# Altium schematic symbol library WISP6.SchLib: 80 symbols
Pins are listed as number, name and electrical type; pins without a type are passive.

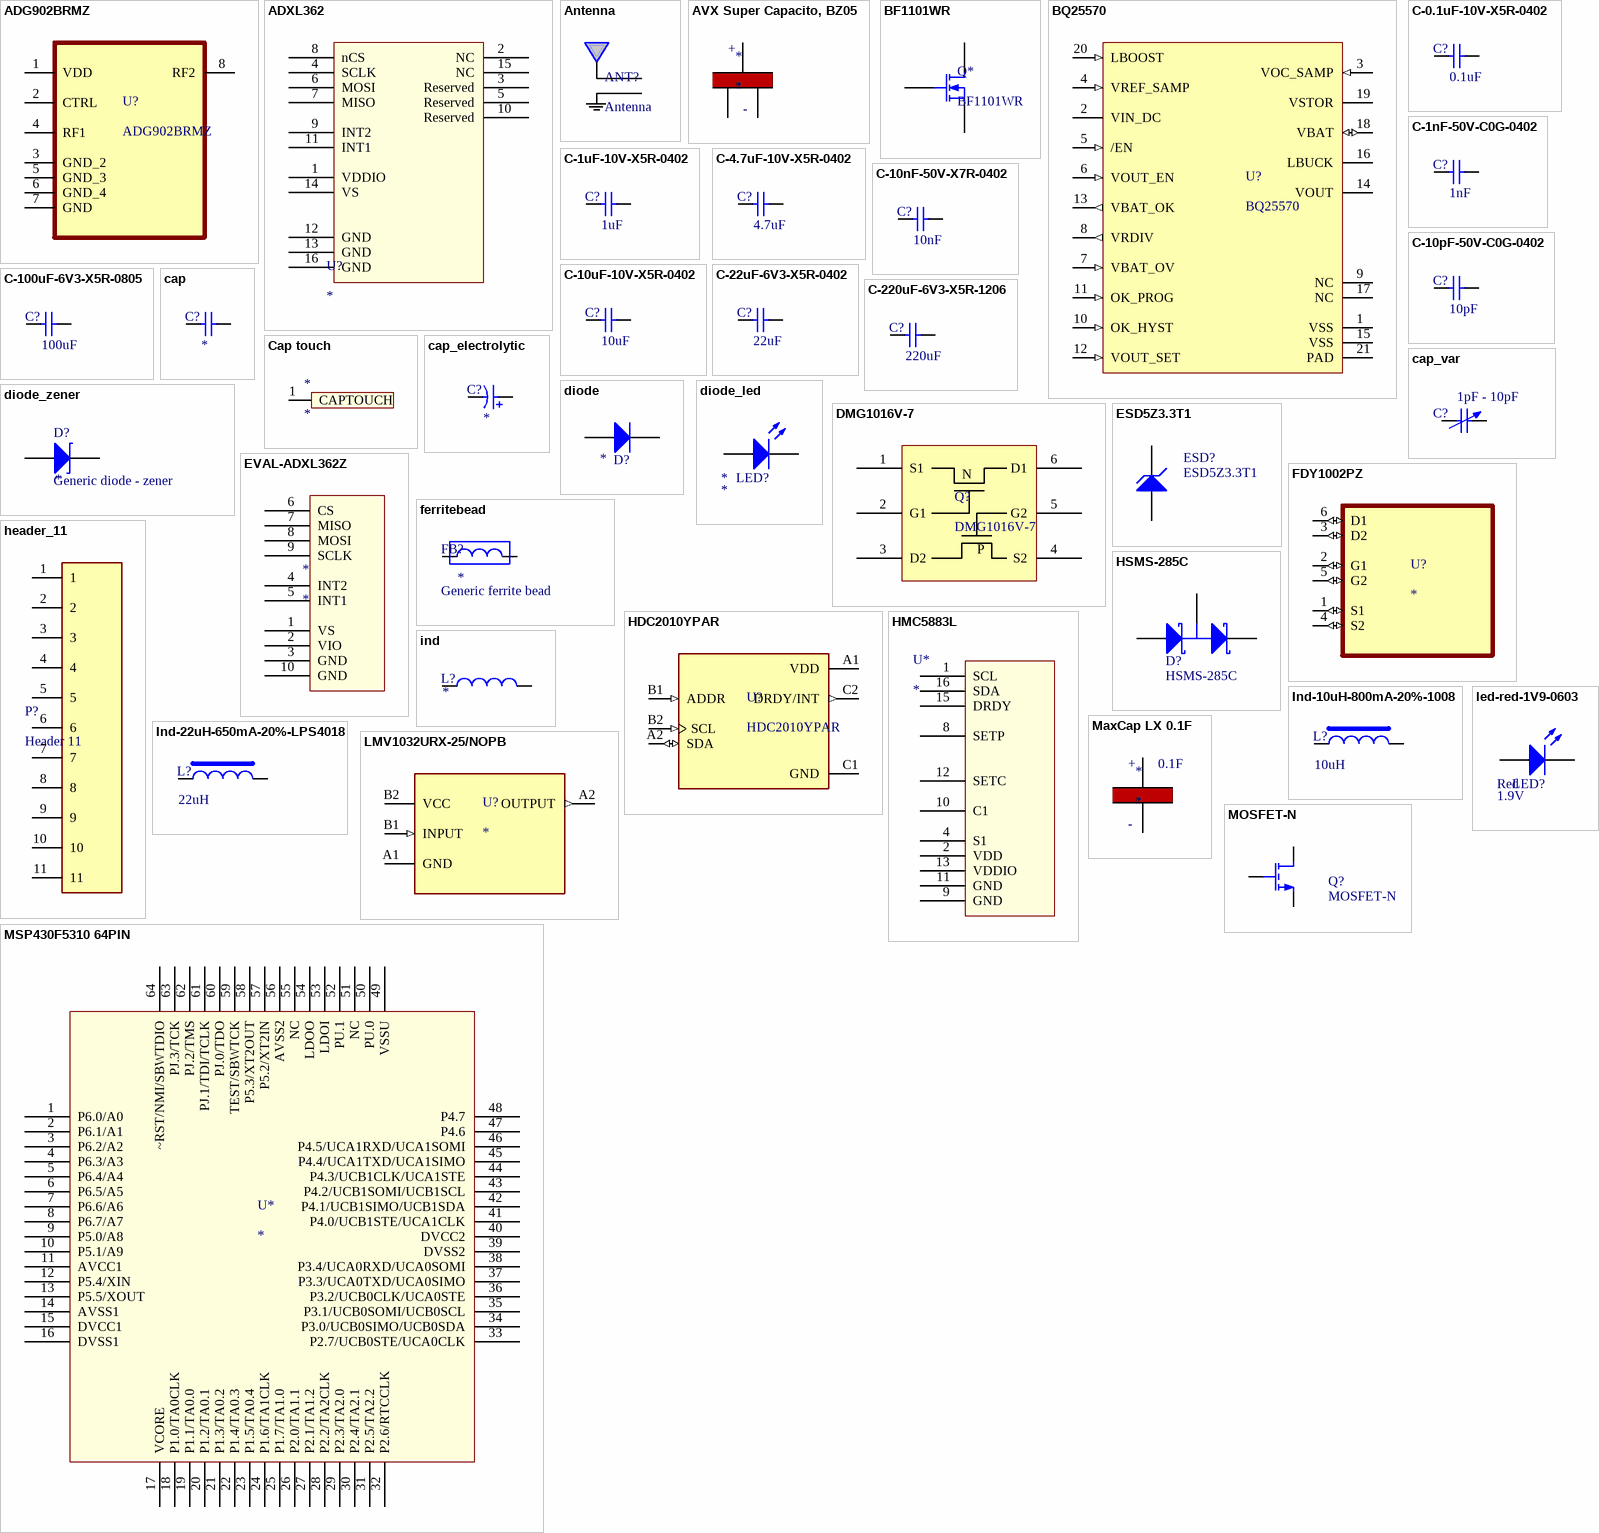
[diagram p0: symbols ADG902BRMZ to MSP430F5310 64PIN]

## ADG902BRMZ
designator U?
RF Switch IC General Purpose SPST 2.5GHz 50Ohm 8-MSOP; Manufacturer: Analog Devices; Rating: 1.65V~2.75Vcc, -40~85C; Digi-Key Part Number: ADG902BRMZ-ND; Manufacturer Part Number: ADG902BRMZ; Value: *; Note: *
footprint SOP65P490X110-8N
pins: 1 VDD (power), 2 CTRL, 3 GND_2, 4 RF1, 5 GND_3, 6 GND_4, 7 GND, 8 RF2

## ADXL362
designator U?
Analog Devices low power accelerometer; Manufacturer: Analog Devices Inc.; Manufacturer Part Number: ADXL362BCCZ-RL; Rating: 1.6~3.5V, -40~85C; Digi-Key Part Number: 505-ADXL362BCCZ-RLCT-ND; Note: *
footprint ADXL362
pins: 1 VDDIO, 2 NC, 3 Reserved, 4 SCLK, 5 Reserved, 6 MOSI, 7 MISO, 8 nCS, 9 INT2, 10 Reserved, 11 INT1, 12 GND, 13 GND, 14 VS, 15 NC, 16 GND

## Antenna
designator ANT?
footprint PIFA_915 (915 MHz PIFA)
pins: 1 Feed, 2 Gnd

## AVX Super Capacito, BZ05
designator *
AVX Super Capacito, BZ05
footprint SuperCap_BZ05 (SOT-323/SC-70; 3 Leads; HSMS-285C)
pins: 1 Positive (power), 2 NEGATIVE (power), 3 NEGATIVE (power)
text: +; -

## BF1101WR
designator Q*
N-Channel Dual-Gate Mos-Fets MOSFET, SOT343R; Manufacturer Part Number: BF1101WR,115; Manufacturer: NXP Semiconductors; Digi-Key Part Number: 568-6140-1-ND; Rating: *; Value: *; Note: *
footprint SOT343R (SOT343R - Package for BF1101WR)
pins: 1 S, 2 D, 3 G

## BQ25570
designator U?
Buck-boost charger Energy Harvesting PMIC 20-VQFN (3.5x3.5); Manufacturer: Texas Instruments; Manufacturer Part Number: BQ25570RGRT; Rating: -40~125C; Digi-Key Part Number: 296-37014-1-ND; Value: *; Note: *
footprint BQ25570 (Boost Charger)
pins: 1 VSS, 2 VIN_DC, 3 VOC_SAMP (in), 4 VREF_SAMP (in), 5 /EN (in), 6 VOUT_EN (in), 7 VBAT_OV (in), 8 VRDIV (out), 9 NC, 10 OK_HYST (in), 11 OK_PROG (in), 12 VOUT_SET (in), 13 VBAT_OK (out), 14 VOUT, 15 VSS, 16 LBUCK, 17 NC, 18 VBAT (io), 19 VSTOR, 20 LBOOST (in), 21 PAD

## C-0.1uF-10V-X5R-0402
designator C?, comment value 0.1uF  (hidden comment: Generic ceramic capacitor)
CAP CER 100nF/0.1UF 10V X5R 0402; Manufacturer: Samsung Electro-Mechanics; Manufacturer Part Number: CL05A104KP5NNNC; Rating: 10V, -55C~85C; Tolerance: +-10%; Digi-Key Part Number: 1276-1022-1-ND; Note: *
footprint 0402 (Surface Mount; Body 1 x 0.5 mm (LxW typ))
footprint 0402-W (Surface Mount - Wide; Body 1.0 x 0.5 mm (LxW typ))
pins: 1, 2

## C-1nF-50V-C0G-0402
designator C?, comment value 1nF  (hidden comment: Generic ceramic capacitor)
CAP CER 1000PF 50V C0G/NP0 0402; Manufacturer: Samsung Electro-Mechanics; Manufacturer Part Number: CL05C102JB5NNNC; Rating: 50V, -55~125C; Tolerance: +-5%; Digi-Key Part Number: 1276-1635-1-ND; Note: *
footprint 0402 (Surface Mount; Body 1 x 0.5 mm (LxW typ))
footprint 0402-W (Surface Mount - Wide; Body 1.0 x 0.5 mm (LxW typ))
pins: 1, 2

## C-1uF-10V-X5R-0402
designator C?, comment value 1uF  (hidden comment: Generic ceramic capacitor)
CAP CER 1UF 10V X5R 0402; Manufacturer: Samsung Electro-Mechanics; Manufacturer Part Number: CL05A105KP5NNNC; Rating: 10V, -55~85C; Tolerance: +-10%; Digi-Key Part Number: 1276-1076-1-ND; Note: *
footprint 0402 (Surface Mount; Body 1 x 0.5 mm (LxW typ))
footprint 0402-W (Surface Mount - Wide; Body 1.0 x 0.5 mm (LxW typ))
pins: 1, 2

## C-4.7uF-10V-X5R-0402
designator C?, comment value 4.7uF  (hidden comment: Generic ceramic capacitor)
CAP CER 4.7UF 10V X5R 0402; Manufacturer: Samsung Electro-Mechanics; Manufacturer Part Number: CL05A475MP5NRNC; Rating: 10V, -55~85C; Tolerance: +-20%; Digi-Key Part Number: 1276-1482-1-ND; Note: *
footprint 0402 (Surface Mount; Body 1 x 0.5 mm (LxW typ))
footprint 0402-W (Surface Mount - Wide; Body 1.0 x 0.5 mm (LxW typ))
pins: 1, 2

## C-10nF-50V-X7R-0402
designator C?, comment value 10nF  (hidden comment: Generic ceramic capacitor)
10000 pF ±10% 50V Ceramic Capacitor X7R 0402 (1005 Metric); Manufacturer: Samsung Electro-Mechanics; Manufacturer Part Number: CL05B103KB5NNNC; Rating: 50V, -55~125C; Tolerance: +-10%; Digi-Key Part Number: 1276-1028-1-ND; Note: *
footprint 0402 (Surface Mount; Body 1 x 0.5 mm (LxW typ))
footprint 0402-W (Surface Mount - Wide; Body 1.0 x 0.5 mm (LxW typ))
pins: 1, 2

## C-10pF-50V-C0G-0402
designator C?, comment value 10pF  (hidden comment: Generic ceramic capacitor)
CAP CER 10PF 50V C0G/NP0 0402; Manufacturer: Samsung Electro-Mechanics; Manufacturer Part Number: CL05C100DB5NNNC; Rating: 10V, -55~125C; Tolerance: +-0.5pF; Digi-Key Part Number: 1276-1625-1-ND; Note: *
footprint 0402 (Surface Mount; Body 1 x 0.5 mm (LxW typ))
footprint 0402-W (Surface Mount - Wide; Body 1.0 x 0.5 mm (LxW typ))
pins: 1, 2

## C-10uF-10V-X5R-0402
designator C?, comment value 10uF  (hidden comment: Generic ceramic capacitor)
CAP CER 10UF 10V X5R 0402; Manufacturer: Samsung Electro-Mechanics; Manufacturer Part Number: CL05A106MP6NUN8; Rating: 10V, -55~85C; Tolerance: +-20%; Digi-Key Part Number: 1276-CL05A106MP6NUN8CT-ND; Note: *
footprint 0402 (Surface Mount; Body 1 x 0.5 mm (LxW typ))
footprint 0402-W (Surface Mount - Wide; Body 1.0 x 0.5 mm (LxW typ))
pins: 1, 2

## C-22uF-6V3-X5R-0402
designator C?, comment value 22uF  (hidden comment: Generic ceramic capacitor)
CAP CER 22UF 6.3V X5R 0402; Manufacturer: Samsung Electro-Mechanics; Manufacturer Part Number: CL05A226MQ5N6J8; Rating: 6.3V, -55~85C; Tolerance: +-20%; Digi-Key Part Number: 1276-7090-1-ND; Note: *
footprint 0402 (Surface Mount; Body 1 x 0.5 mm (LxW typ))
footprint 0402-W (Surface Mount - Wide; Body 1.0 x 0.5 mm (LxW typ))
pins: 1, 2

## C-100uF-6V3-X5R-0805
designator C?, comment value 100uF  (hidden comment: Generic ceramic capacitor)
CAP CER 100UF 6.3V X5R 0805; Manufacturer: Murata Electronics; Manufacturer Part Number: GRM21BR60J107ME15L; Rating: 6.3V, -55~85C; Tolerance: +-20%; Digi-Key Part Number: 490-13981-1-ND; Note: *
footprint 0805 (Surface Mount; Body 2.0 x 1.25 mm (LxW typ))
footprint 0805-W (Surface Mount - Wide; Body 2.0 x 1.25 mm (LxW typ))
pins: 1, 2

## C-220uF-6V3-X5R-1206
designator C?, comment value 220uF  (hidden comment: Generic ceramic capacitor)
CAP CER 220UF 6.3V X5R 1206; Manufacturer: Murata Electronics; Manufacturer Part Number: GRM31CR60J227ME11L; Rating: 6.3V, -55~85C; Tolerance: +-20%; Digi-Key Part Number: 490-13970-1-ND; Note: *
footprint 1206 (Surface Mount; Body 3.2 x 1.6 mm (LxW typ))
footprint 1206-W (Surface Mount - Wide; Body 3.2 x 1.6 mm (LxW typ))
pins: 1, 2

## cap
designator C?, comment Generic capacitor  (value not drawn)
Ceramic Capacitor (Surface Mount); Digi-Key Part Number: *; Manufacturer: *; Manufacturer Part Number: *; Note: *; Rating: *; Tolerance: *; Value: *
footprint 0402 (Surface Mount; Body 1 x 0.5 mm (LxW typ))
footprint 0402-W (Surface Mount - Wide; Body 1.0 x 0.5 mm (LxW typ))
footprint 0603 (Surface Mount; Body 1.6 x 0.8 mm (LxW typ))
footprint 0603-W (Surface Mount - Wide; Body 1.6 x 0.8 mm (LxW typ))
footprint 0805 (Surface Mount; Body 2.0 x 1.25 mm (LxW typ))
footprint 0805-W (Surface Mount - Wide; Body 2.0 x 1.25 mm (LxW typ))
footprint 1206 (Surface Mount; Body 3.2 x 1.6 mm (LxW typ))
footprint 1206-W (Surface Mount - Wide; Body 3.2 x 1.6 mm (LxW typ))
footprint 1210 (Surface Mount; Body 3.2 x 2.5 mm (LxW typ))
footprint 1210-W (Chip Capacitor; Body 3.2 x 2.5 mm (LxW typ))
pins: 1, 2

## Cap touch
designator *
footprint CAPTOUCH-15mm
pins: 1 CAPTOUCH

## cap_electrolytic
designator C?, comment Generic electrolytic capacitor  (value not drawn)
Electrolytic capacitor; Digi-Key Part Number: *; Manufacturer: *; Manufacturer Part Number: *; Note: *; Rating: *; Tolerance: *; Value: *
footprint CAPPRD500W60D1000H3200
pins: N, P

## cap_var
designator C?, comment value 1pF - 10pF  (hidden comment: Varicap)
Variable or Adjustable Capacitor; Manufacturer: *; Manufacturer Part Number: *; Digi-Key Part Number: *; Rating: *; Tolerance: *; Note: *
footprint Var-Cap_0603_Small (Var-Cap 0603 Compatible High-Q, DK#490-2011-1-ND)
pins: 1, 2

## diode
designator D?, comment Generic diode  (value not drawn)
General purpose diode; Manufacturer: *; Manufacturer Part Number: *; Digi-Key Part Number: *; Rating: *; Note: *; Tolerance: *; Value: *
footprint Diode - SOD128 (Diode: Body 1.6 x 0.8 mm (LxW typ))
footprint DIODE - SOD123 (SOD-123; 2 Leads; Body 2.7 x 1.6 mm, (LxW))
footprint SOD-523 (SOD-523 Footprint)
pins: 1 A, 2 C

## diode_led
designator LED?, comment Generic LED  (value not drawn)
Typical RED, GREEN, YELLOW, AMBER GaAs LED; Digi-Key Part Number: *; Manufacturer: *; Manufacturer Part Number: *; Note: *; Rating: *; Tolerance: *; Value: *; Color: *
footprint Diode - 0603 (Diode: Body 1.6 x 0.8 mm (LxW typ))
pins: 1 A, 2 K

## diode_zener
designator D?, comment Generic diode - zener
Diode - Zener; Manufacturer Part Number: *; Manufacturer: *; Digi-Key Part Number: *; Note: *; Tolerance: *; Rating: *; Value: *
footprint SOD-523 (SOD-523 Footprint)
footprint Zener_SOD-523 (Zener Diod)
pins: 1 A, 2 K

## DMG1016V-7
designator Q?
MOSFET N/P-CH 20V 0.87A SOT563; Manufacturer: Diodes Incorporated; Rating: 530mW, -55~150C; Digi-Key Part Number: DMG1016V-7DICT-ND; Manufacturer Part Number: DMG1016V-7; Tolerance: *; Note: *
footprint SOT-563 Diodes Incorporated (Made from DMG1016V datasheet)
pins: 1 S1, 2 G1, 3 D2, 4 S2, 5 G2, 6 D1
text: N; P

## ESD5Z3.3T1
designator ESD?
5V Overvoltage Protection Zener; Manufacturer Part Number: ESD5Z3.3T1G; Manufacturer: ON Semiconductor; Digi-Key Part Number: ESD5Z3.3T1GOSCT-ND; Value: *; Rating: *; Note: *
footprint SOD-523 (SOD-523 Footprint)
pins: 1 C, 2 A

## EVAL-ADXL362Z
designator *
footprint EVAL-ADXL362Z
pins: 1 VS, 2 VIO, 3 GND, 4 INT2, 5 INT1, 6 CS, 7 MISO, 8 MOSI, 9 SCLK, 10 GND

## FDY1002PZ
designator U?
Mosfet Array 2 P-Channel (Dual) 20V 830mA 446mW Surface Mount SOT-563F; MP: FDY1002PZ; MF: ON Semiconductor; Value: *; Check_prices: https://www.snapeda.com/parts/FDY1002PZ/Onsemi/view-part/?ref=eda; Availability: In Stock; Price: None; Package: SOT-563-6 ON Semiconductor; SnapEDA_Link: https://www.snapeda.com/parts/FDY1002PZ/Onsemi/view-part/?ref=snap; Purchase-URL: https://pricing.snapeda.com/search/part/FDY1002PZ/?ref=eda
footprint SOT50P160X60-6N
pins: 1 S1 (io), 2 G1 (io), 3 D2 (io), 4 S2 (io), 5 G2 (io), 6 D1 (io)

## ferritebead
designator FB?, comment Generic ferrite bead
Ferrite bead, RF choke; Digi-Key Part Number: *; Manufacturer: *; Manufacturer Part Number: *; Rating: *; Note: *; Tolerance: *; Value: *
footprint 0402 (Surface Mount; Body 1 x 0.5 mm (LxW typ))
footprint 0402-W (Surface Mount - Wide; Body 1.0 x 0.5 mm (LxW typ))
footprint 0603 (Surface Mount; Body 1.6 x 0.8 mm (LxW typ))
footprint 0603-W (Surface Mount - Wide; Body 1.6 x 0.8 mm (LxW typ))
footprint 0805 (Surface Mount; Body 2.0 x 1.25 mm (LxW typ))
footprint 0805-W (Surface Mount - Wide; Body 2.0 x 1.25 mm (LxW typ))
footprint 1206 (Surface Mount; Body 3.2 x 1.6 mm (LxW typ))
footprint 1206-W (Surface Mount - Wide; Body 3.2 x 1.6 mm (LxW typ))
pins: 1, 2

## HDC2010YPAR
designator U?
Humidity, Temperature 0 ~ 100% RH I2C ±2% 8 s Surface Mount; Manufacturer: Texas Instruments; Rating: -40~85C; Manufacturer Part Number: HDC2010YPAR; Value: *; Digi-Key Part Number: 296-47774-1-ND; Note: *
footprint BGA6C100X50P2X3_HDC2010YPAR
pins: A1 VDD (power), A2 SDA (io), B1 ADDR (in), B2 SCL (in), C1 GND (power), C2 DRDY/INT (out)

## header_11
designator P?, comment Header 11
Generic 11 position header; Manufacturer: *; Manufacturer Part Number: *; Rating: *; Note: *; Digi-Key Part Number: *
footprint 0.1_inch_11_Position (0.1 inch (2.54mm) 11 position header)
pins: 1, 2, 3, 4, 5, 6, 7, 8, 9, 10, 11

## HMC5883L
designator U*
3-Axis Digital Magnetometer
footprint HMC5883L LCC16 0.5mm pitch
pins: 1 SCL, 2 VDD, 3 NC hidden, 4 S1, 5 NC hidden, 6 NC hidden, 7 NC hidden, 8 SETP, 9 GND, 10 C1, 11 GND, 12 SETC, 13 VDDIO, 14 NC hidden, 15 DRDY, 16 SDA

## HSMS-285C
designator D?
Agilent Schottky Diode, Two in Series, Small Package SOT-323; Manufacturer: Avago Technologies US Inc.; Note: *; Digi-Key Part Number: *not stocked; Manufacturer Part Number: HSMS-285C; Rating: *; Value: *
footprint SOT-323, HSMS-285C (SOT-323/SC-70; 3 Leads; HSMS-285C)
pins: 1 A, 2 K, 3 C

## ind
designator L?, comment Generic inductor  (value not drawn)
Inductor (Surface Mount); Digi-Key Part Number: *; Manufacturer: *; Manufacturer Part Number: *; Rating: *; Note: *; Tolerance: *; Value: *
footprint 0402 (Surface Mount; Body 1 x 0.5 mm (LxW typ))
footprint 0402-W (Surface Mount - Wide; Body 1.0 x 0.5 mm (LxW typ))
footprint 0603 (Surface Mount; Body 1.6 x 0.8 mm (LxW typ))
footprint 0603-W (Surface Mount - Wide; Body 1.6 x 0.8 mm (LxW typ))
footprint 0805 (Surface Mount; Body 2.0 x 1.25 mm (LxW typ))
footprint 0805-W (Surface Mount - Wide; Body 2.0 x 1.25 mm (LxW typ))
footprint 1206 (Surface Mount; Body 3.2 x 1.6 mm (LxW typ))
footprint 1206-W (Surface Mount - Wide; Body 3.2 x 1.6 mm (LxW typ))
footprint 1210 (Surface Mount; Body 3.2 x 2.5 mm (LxW typ))
footprint 1210-W (Chip Capacitor; Body 3.2 x 2.5 mm (LxW typ))
pins: 1, 2

## Ind-10uH-800mA-20%-1008
designator L?, comment value 10uH  (hidden comment: SMT shielded inductor)
FIXED IND 10UH 800MA 625 MOHM; Manufacturer: Würth Elektronik; Manufacturer Part Number: 74479889310; Tolerance: +-20%; Digi-Key Part Number: 732-74479889310CT-ND; Rating: 800mA; Note: *
footprint IND1008
pins: 1, 2

## Ind-22uH-650mA-20%-LPS4018
designator L?, comment value 22uH  (hidden comment: SMT shielded inductor)
22 µH Shielded Drum Core Inductor 650 mA 360mOhm Max Nonstandard; Manufacturer: Coilcraft; Manufacturer Part Number: LPS4018-223MRC; Rating: 650mA; Tolerance: +-20%; Digi-Key Part Number: 2457-LPS4018-223MRC-ND; Note: *
footprint LPS4018 (Inductor)
pins: 1, 2

## led-red-1V9-0603
designator LED?, comment value 1.9V  Color: Red  (hidden comment: Generic LED)
Red 629nm LED Indication - Discrete 1.9V 0603 (1608 Metric); Manufacturer: Lite-On Inc.; Manufacturer Part Number: LTST-C193KRKT-2A; Rating: 2A; Digi-Key Part Number: 160-1909-1-ND; Note: *; Tolerance: *
footprint Diode - 0603 (Diode: Body 1.6 x 0.8 mm (LxW typ))
pins: 1 A, 2 K

## LMV1032URX-25/NOPB
designator U?
Analog input microphone preamplifier for 3-wire electret microphones; MF: Texas Instruments; MP: LMV1032URX-25/NOPB; SnapEDA_Link: https://www.snapeda.com/parts/LMV1032URX-25/NOPB/Texas+Instruments/view-part/?ref=snap; Price: None; Check_prices: https://www.snapeda.com/parts/LMV1032URX-25/NOPB/Texas+Instruments/view-part/?ref=eda; Purchase-URL: https://pricing.snapeda.com/search/part/LMV1032URX-25/NOPB/?ref=eda; Value: *; Package: DSBGA-4 Texas Instruments; Availability: In Stock
footprint BGA4C2X2X50P_117X117X42
pins: A1 GND, A2 OUTPUT (out), B1 INPUT (in), B2 VCC (power)

## MaxCap LX 0.1F
designator *
MaxCap LX 0.1F, low leakage supper cap 5.5v
footprint Maxcap LX 0.1F (Maxcap LX Series, 0.1F, Diameter  11mm, Leads 5.1mm)
pins: 1 Positive (power), 2 GND (power)
text: +; 0.1F; -

## MOSFET-N
designator Q?
N-Channel MOSFET; Digi-Key Part Number: *; Manufacturer Part Number: *; Manufacturer: *; Notes: *; Rating: *
footprint SOT23 - N (SOT23, 3-Leads, Body 2.9x1.3mm, Pitch 0.95mm, Lead Span 2.3mm - Reverse Pinning, IPC Medium Density)
pins: 1 G, 2 S, 3 D

## MSP430F5310 64PIN
designator U*
16-bit Low Power Microcontroller
footprint MSP430F5310 LCC64
pins: 1 P6.0/A0, 2 P6.1/A1, 3 P6.2/A2, 4 P6.3/A3, 5 P6.4/A4, 6 P6.5/A5, 7 P6.6/A6, 8 P6.7/A7, 9 P5.0/A8, 10 P5.1/A9, 11 AVCC1, 12 P5.4/XIN, 13 P5.5/XOUT, 14 AVSS1, 15 DVCC1, 16 DVSS1, 17 VCORE, 18 P1.0/TA0CLK, 19 P1.1/TA0.0, 20 P1.2/TA0.1, 21 P1.3/TA0.2, 22 P1.4/TA0.3, 23 P1.5/TA0.4, 24 P1.6/TA1CLK, 25 P1.7/TA1.0, 26 P2.0/TA1.1, 27 P2.1/TA1.2, 28 P2.2/TA2CLK, 29 P2.3/TA2.0, 30 P2.4/TA2.1, 31 P2.5/TA2.2, 32 P2.6/RTCCLK, 33 P2.7/UCB0STE/UCA0CLK, 34 P3.0/UCB0SIMO/UCB0SDA, 35 P3.1/UCB0SOMI/UCB0SCL, 36 P3.2/UCB0CLK/UCA0STE, 37 P3.3/UCA0TXD/UCA0SIMO, 38 P3.4/UCA0RXD/UCA0SOMI, 39 DVSS2, 40 DVCC2, 41 P4.0/UCB1STE/UCA1CLK, 42 P4.1/UCB1SIMO/UCB1SDA, 43 P4.2/UCB1SOMI/UCB1SCL, 44 P4.3/UCB1CLK/UCA1STE, 45 P4.4/UCA1TXD/UCA1SIMO, 46 P4.5/UCA1RXD/UCA1SOMI, 47 P4.6, 48 P4.7, 49 VSSU, 50 PU.0, 51 NC, 52 PU.1, 53 LDOI, 54 LDOO, 55 NC, 56 AVSS2, 57 P5.2/XT2IN, 58 P5.3/XT2OUT, 59 TEST/SBWTCK, 60 PJ.0/TDO, 61 PJ.1/TDI/TCLK, 62 PJ.2/TMS, 63 PJ.3/TCK, 64 ~RST/NMI/SBWTDIO

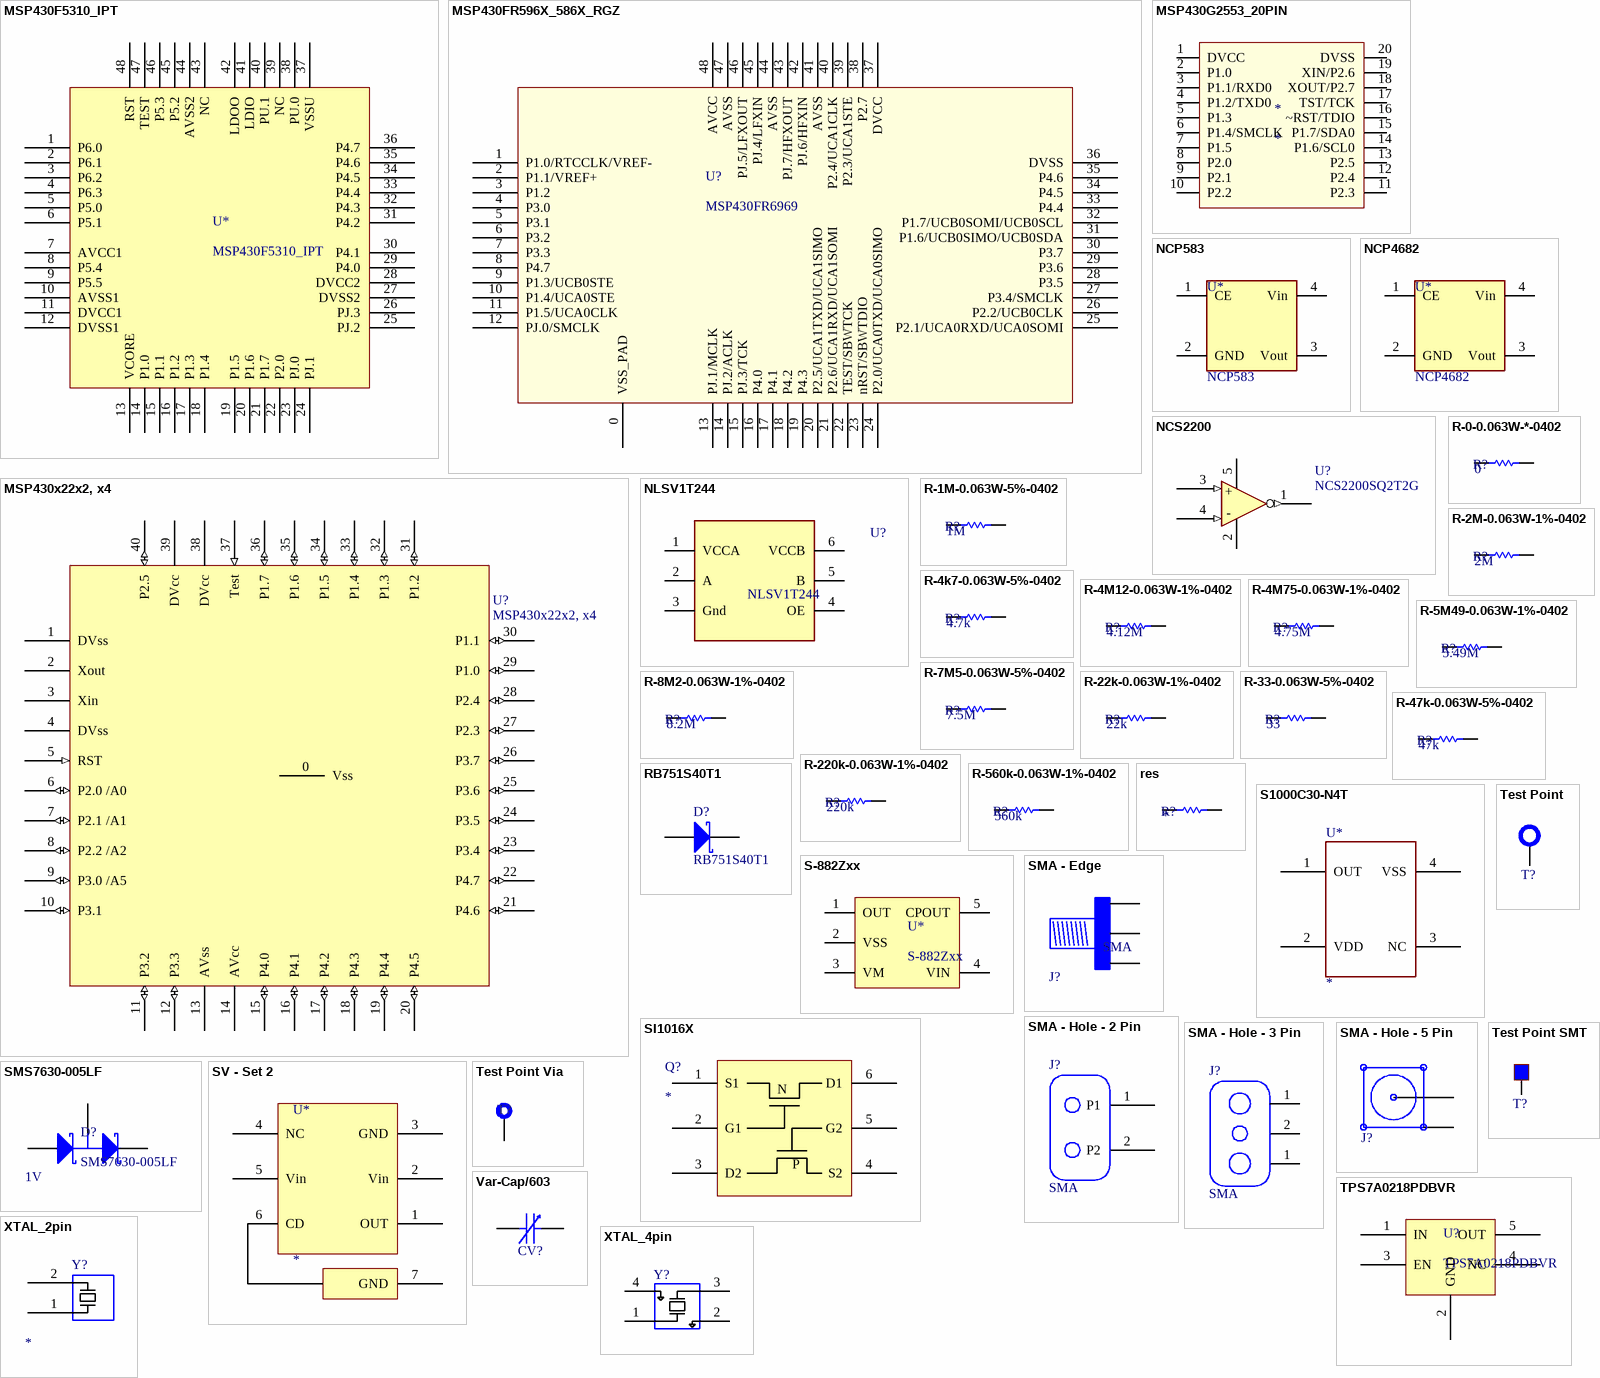
[diagram p1: symbols MSP430F5310_IPT to XTAL_4pin]

## MSP430F5310_IPT
designator U*
IC MCU 16BIT 32KB FLASH 48LQFP, MSP430F5310_IPT; Manufacturer: Texas Instruments; Manufacturer Part Number: MSP430F5310IPTR; Digi-Key Part Number: 296-28193-2-ND; Rating: *; Value: *; Note: *
footprint PT48_L (Thin QFP, 48-Leads, Body 7x7mm, Pitch 0.5mm, IPC High Density)
pins: 1 P6.0, 2 P6.1, 3 P6.2, 4 P6.3, 5 P5.0, 6 P5.1, 7 AVCC1, 8 P5.4, 9 P5.5, 10 AVSS1, 11 DVCC1, 12 DVSS1, 13 VCORE, 14 P1.0, 15 P1.1, 16 P1.2, 17 P1.3, 18 P1.4, 19 P1.5, 20 P1.6, 21 P1.7, 22 P2.0, 23 PJ.0, 24 PJ.1, 25 PJ.2, 26 PJ.3, 27 DVSS2, 28 DVCC2, 29 P4.0, 30 P4.1, 31 P4.2, 32 P4.3, 33 P4.4, 34 P4.5, 35 P4.6, 36 P4.7, 37 VSSU, 38 PU.0, 39 NC, 40 PU.1, 41 LDIO, 42 LDOO, 43 NC, 44 AVSS2, 45 P5.2, 46 P5.3, 47 TEST, 48 RST

## MSP430FR596X_586X_RGZ
designator U?, comment MSP430FR6969
MSP430 CPUXV2 MSP430™ FRAM Microcontroller IC 16-Bit 16MHz 64KB (64K x 8) FRAM 48-VQFN (7x7); Manufacturer Part Number: MSP430FR5969IRGZT; Manufacturer: Texas Instruments; Rating: -40~85C; Digi-Key Part Number: 296-37918-1-ND; Note: *
footprint MSP_QFN48_RGZ_PAD0
pins: 0 VSS_PAD, 1 P1.0/RTCCLK/VREF-, 2 P1.1/VREF+, 3 P1.2, 4 P3.0, 5 P3.1, 6 P3.2, 7 P3.3, 8 P4.7, 9 P1.3/UCB0STE, 10 P1.4/UCA0STE, 11 P1.5/UCA0CLK, 12 PJ.0/SMCLK, 13 PJ.1/MCLK, 14 PJ.2/ACLK, 15 PJ.3/TCK, 16 P4.0, 17 P4.1, 18 P4.2, 19 P4.3, 20 P2.5/UCA1TXD/UCA1SIMO, 21 P2.6/UCA1RXD/UCA1SOMI, 22 TEST/SBWTCK, 23 nRST/SBWTDIO, 24 P2.0/UCA0TXD/UCA0SIMO, 25 P2.1/UCA0RXD/UCA0SOMI, 26 P2.2/UCB0CLK, 27 P3.4/SMCLK, 28 P3.5, 29 P3.6, 30 P3.7, 31 P1.6/UCB0SIMO/UCB0SDA, 32 P1.7/UCB0SOMI/UCB0SCL, 33 P4.4, 34 P4.5, 35 P4.6, 36 DVSS, 37 DVCC, 38 P2.7, 39 P2.3/UCA1STE, 40 P2.4/UCA1CLK, 41 AVSS, 42 PJ.6/HFXIN, 43 PJ.7/HFXOUT, 44 AVSS, 45 PJ.4/LFXIN, 46 PJ.5/LFXOUT, 47 AVSS, 48 AVCC

## MSP430G2553_20PIN
designator *
16-bit Value Line MSP430
footprint 20TSSOP-0.65-PITCH
pins: 1 DVCC, 2 P1.0, 3 P1.1/RXD0, 4 P1.2/TXD0, 5 P1.3, 6 P1.4/SMCLK, 7 P1.5, 8 P2.0, 9 P2.1, 10 P2.2, 11 P2.3, 12 P2.4, 13 P2.5, 14 P1.6/SCL0, 15 P1.7/SDA0, 16 ~RST/TDIO, 17 TST/TCK, 18 XOUT/P2.7, 19 XIN/P2.6, 20 DVSS

## MSP430x22x2, x4
designator U?
40QFN - MSP430x22x2, x4; Manufacturer: Texas Instruments; Manufacturer Part Number: MSP430F2272IRHAT (several variants); Note: *; Digi-Key Part Number: 296-21441-1-ND (several variants)
footprint 40-QFN (40-QFN, for MSP430x22x2, x4)
pins: 0 Vss (power) "Output", 1 DVss (power) "Output", 2 Xout "Output", 3 Xin "Output", 4 DVss (power) "Output", 5 RST (in), 6 P2.0 /A0 (io), 7 P2.1 /A1 (io), 8 P2.2 /A2 (io), 9 P3.0 /A5 (io), 10 P3.1 (io), 11 P3.2 (io), 12 P3.3 (io), 13 AVss (power), 14 AVcc (power), 15 P4.0 (io), 16 P4.1 (io), 17 P4.2 (io), 18 P4.3  (io), 19 P4.4 (io), 20 P4.5 (io), 21 P4.6 (io), 22 P4.7 (io), 23 P3.4 (io), 24 P3.5 (io), 25 P3.6 (io), 26 P3.7 (io), 27 P2.3 (io), 28 P2.4 (io), 29 P1.0 (io), 30 P1.1 (io), 31 P1.2 (io), 32 P1.3 (io), 33 P1.4 (io), 34 P1.5 (io), 35 P1.6 (io), 36 P1.7 (io), 37 Test (in), 38 DVcc (power), 39 DVcc (power), 40 P2.5 (io)

## NCP583
designator U*
Regulator: Ultra-Low Iq 150mA CMOS LDO Regulator with Enable; Manufacturer: ON Semiconductor; Manufacturer Part Number: NCP583SQ18T1G; Digi-Key Part Number: NCP583SQ18T1GOSCT-ND; Rating: *; Value: *; Note: *
footprint SC82-AB
pins: 1 CE, 2 GND, 3 Vout, 4 Vin

## NCP4682
designator U*
Regulator: LDO  NCP4682 (with enable) / NCP4685 (without); Manufacturer: ON Semiconductor; Manufacturer Part Number: NCP4682DSQ18T1G; Digi-Key Part Number: NCP4682DSQ18T1GOSCT-ND; Rating: *; Value: *; Note: *
footprint SC82-AB
pins: 1 CE, 2 GND, 3 Vout, 4 Vin

## NCS2200
designator U?, comment NCS2200SQ2T2G
Comparator Standard (General Purpose) Complementary, Rail-to-Rail SC-88A (SC-70-5/SOT-353); Manufacturer: onsemi; Rating: 6V max, -40~105C; Digi-Key Part Number: NCS2200SQ2T2GOSCT-ND; Manufacturer Part Number: NCS2200SQ2T2G; Value: *; Note: *
footprint SC70-5
pins: 1 OUT (out) "Output", 2 Gnd (power), 3 IN+ (in) "Positive Input", 4 In- (in) "Inverting Input", 5 VDD (power)
text: +; -

## NLSV1T244
designator U?
Level Shifter: 1-Bit Dual-Supply Non-Inverting Level Translator; Manufacturer Part Number: NLSV1T244MUTBG; Manufacturer: ON Semiconductor; Digi-Key Part Number: NLSV1T244MUTBG-ND; Rating: *; Value: *; Note: *
footprint UDFN6 (UDFN6 - Level Shifter -  NLSV1T244)
footprint UDFN6 - Long (UDFN6 - Level Shifter -  NLSV1T244)
pins: 1 VCCA (power) "VDDA", 2 A "Low Voltage IO", 3 Gnd (power), 4 OE "Enable Output Translation", 5 B "High Voltage IO", 6 VCCB (power) "VDDY"

## R-0-0.063W-*-0402
designator R?, comment value 0  (hidden comment: Generic resistor)
RES 0 OHM JUMPER 1/16W 0402; Manufacturer: YAGEO; Manufacturer Part Number: RC0402JR-070RL; Digi-Key Part Number: 311-0.0JRCT-ND; Rating: 1/16W; Note: *; Tolerance: *
footprint 0402 (Surface Mount; Body 1 x 0.5 mm (LxW typ))
footprint 0402-W (Surface Mount - Wide; Body 1.0 x 0.5 mm (LxW typ))
pins: 1, 2

## R-1M-0.063W-5%-0402
designator R?, comment value 1M  (hidden comment: Generic resistor)
RES 1M OHM 5% 1/16W 0402; Manufacturer: YAGEO; Manufacturer Part Number: RC0402JR-071ML; Tolerance: +-5%; Digi-Key Part Number: 311-1.0MJRCT-ND; Rating: 1/16W; Note: *
footprint 0402 (Surface Mount; Body 1 x 0.5 mm (LxW typ))
footprint 0402-W (Surface Mount - Wide; Body 1.0 x 0.5 mm (LxW typ))
pins: 1, 2

## R-2M-0.063W-1%-0402
designator R?, comment value 2M  (hidden comment: Generic resistor)
RES 2M OHM 1% 1/16W 0402; Manufacturer: YAGEO; Manufacturer Part Number: RC0402FR-072ML; Tolerance: +-1%; Digi-Key Part Number: 13-RC0402FR-072MLCT-ND; Rating: 1/16W; Note: *
footprint 0402 (Surface Mount; Body 1 x 0.5 mm (LxW typ))
footprint 0402-W (Surface Mount - Wide; Body 1.0 x 0.5 mm (LxW typ))
pins: 1, 2

## R-4k7-0.063W-5%-0402
designator R?, comment value 4.7k  (hidden comment: Generic resistor)
RES 4.7K OHM 5% 1/16W 0402; Manufacturer: YAGEO; Manufacturer Part Number: RC0402JR-074K7L; Tolerance: +-5%; Digi-Key Part Number: 311-4.7KJRCT-ND; Rating: 1/16W; Note: *
footprint 0402 (Surface Mount; Body 1 x 0.5 mm (LxW typ))
footprint 0402-W (Surface Mount - Wide; Body 1.0 x 0.5 mm (LxW typ))
pins: 1, 2

## R-4M12-0.063W-1%-0402
designator R?, comment value 4.12M  (hidden comment: Generic resistor)
RES 4.12M OHM 1% 1/16W 0402; Manufacturer: YAGEO; Manufacturer Part Number: RC0402FR-074M12L; Tolerance: +-1%; Digi-Key Part Number: 13-RC0402FR-074M12LCT-ND; Rating: 1/16W; Note: *
footprint 0402 (Surface Mount; Body 1 x 0.5 mm (LxW typ))
footprint 0402-W (Surface Mount - Wide; Body 1.0 x 0.5 mm (LxW typ))
pins: 1, 2

## R-4M75-0.063W-1%-0402
designator R?, comment value 4.75M  (hidden comment: Generic resistor)
RES 4.75M OHM 1% 1/16W 0402; Manufacturer: YAGEO; Manufacturer Part Number: RC0402FR-074M75L; Tolerance: +-1%; Digi-Key Part Number: 13-RC0402FR-074M75LCT-ND; Rating: 1/16W; Note: *
footprint 0402 (Surface Mount; Body 1 x 0.5 mm (LxW typ))
footprint 0402-W (Surface Mount - Wide; Body 1.0 x 0.5 mm (LxW typ))
pins: 1, 2

## R-5M49-0.063W-1%-0402
designator R?, comment value 5.49M  (hidden comment: Generic resistor)
5.49 MOhms ±1% 0.063W, 1/16W Chip Resistor 0402 (1005 Metric) Moisture Resistant Thick Film; Manufacturer: YAGEO; Manufacturer Part Number: RC0402FR-075M49L; Tolerance: +-1%; Digi-Key Part Number: 13-RC0402FR-075M49LCT-ND; Rating: 1/16W; Note: *
footprint 0402 (Surface Mount; Body 1 x 0.5 mm (LxW typ))
footprint 0402-W (Surface Mount - Wide; Body 1.0 x 0.5 mm (LxW typ))
pins: 1, 2

## R-7M5-0.063W-5%-0402
designator R?, comment value 7.5M  (hidden comment: Generic resistor)
RES 7.5M OHM 5% 1/16W 0402; Manufacturer: YAGEO; Manufacturer Part Number: RC0402JR-077M5L; Tolerance: +-5%; Digi-Key Part Number: YAG3315CT-ND; Rating: 1/16W; Note: *
footprint 0402 (Surface Mount; Body 1 x 0.5 mm (LxW typ))
footprint 0402-W (Surface Mount - Wide; Body 1.0 x 0.5 mm (LxW typ))
pins: 1, 2

## R-8M2-0.063W-1%-0402
designator R?, comment value 8.2M  (hidden comment: Generic resistor)
8.2 MOhms ±1% 0.063W, 1/16W Chip Resistor 0402 (1005 Metric) Moisture Resistant Thick Film; Manufacturer: YAGEO; Manufacturer Part Number: RC0402FR-078M2L; Tolerance: +-1%; Digi-Key Part Number: 13-RC0402FR-078M2LCT-ND; Rating: 1/16W; Note: *
footprint 0402 (Surface Mount; Body 1 x 0.5 mm (LxW typ))
footprint 0402-W (Surface Mount - Wide; Body 1.0 x 0.5 mm (LxW typ))
pins: 1, 2

## R-22k-0.063W-1%-0402
designator R?, comment value 22k  (hidden comment: Generic resistor)
RES 22K OHM 1% 1/16W 0402; Manufacturer: YAGEO; Manufacturer Part Number: RC0402FR-0722KL; Tolerance: +-1%; Digi-Key Part Number: 311-22.0KLRCT-ND; Rating: 1/16W; Note: *
footprint 0402 (Surface Mount; Body 1 x 0.5 mm (LxW typ))
footprint 0402-W (Surface Mount - Wide; Body 1.0 x 0.5 mm (LxW typ))
pins: 1, 2

## R-33-0.063W-5%-0402
designator R?, comment value 33  (hidden comment: Generic resistor)
33 Ohms ±5% 0.063W, 1/16W Chip Resistor 0402 (1005 Metric) Moisture Resistant Thick Film; Manufacturer: YAGEO; Manufacturer Part Number: RC0402JR-1333RL; Tolerance: +-5%; Digi-Key Part Number: 13-RC0402JR-1333RLCT-ND; Rating: 1/16W; Note: *
footprint 0402 (Surface Mount; Body 1 x 0.5 mm (LxW typ))
footprint 0402-W (Surface Mount - Wide; Body 1.0 x 0.5 mm (LxW typ))
pins: 1, 2

## R-47k-0.063W-5%-0402
designator R?, comment value 47k  (hidden comment: Generic resistor)
RES 47K OHM 5% 1/16W 0402; Manufacturer: YAGEO; Manufacturer Part Number: RC0402JR-1047KL; Tolerance: +-5%; Digi-Key Part Number: 13-RC0402JR-1047KLCT-ND; Rating: 1/16W; Note: *
footprint 0402 (Surface Mount; Body 1 x 0.5 mm (LxW typ))
footprint 0402-W (Surface Mount - Wide; Body 1.0 x 0.5 mm (LxW typ))
pins: 1, 2

## R-220k-0.063W-1%-0402
designator R?, comment value 220k  (hidden comment: Generic resistor)
RES 220K OHM 1% 1/16W 0402; Manufacturer: YAGEO; Manufacturer Part Number: RC0402FR-07220KL; Tolerance: +-1%; Digi-Key Part Number: 311-220KLRCT-ND; Rating: 1/16W; Note: *
footprint 0402 (Surface Mount; Body 1 x 0.5 mm (LxW typ))
footprint 0402-W (Surface Mount - Wide; Body 1.0 x 0.5 mm (LxW typ))
pins: 1, 2

## R-560k-0.063W-1%-0402
designator R?, comment value 560k  (hidden comment: Generic resistor)
RES 560K OHM 1% 1/16W 0402; Manufacturer: YAGEO; Manufacturer Part Number: RC0402FR-07560KL; Tolerance: +-1%; Digi-Key Part Number: 311-560KLRCT-ND; Rating: 1/16W; Note: *
footprint 0402 (Surface Mount; Body 1 x 0.5 mm (LxW typ))
footprint 0402-W (Surface Mount - Wide; Body 1.0 x 0.5 mm (LxW typ))
pins: 1, 2

## RB751S40T1
designator D?
Schottky Diode; Published: 8-Jun-2000; LatestRevisionDate: 17-Jul-2002; LatestRevisionNote: Re-released for DXP Platform.; PackageReference: SMB; Publisher: Altium Limited; Code_JEDEC: DO-214-AA
footprint SOD-523 (SOD-523 Footprint)
pins: 1 C, 2 A

## res
designator R?, comment Generic resistor  (value not drawn)
Chip Resistor (Surface Mount); Manufacturer: *; Manufacturer Part Number: *; Digi-Key Part Number: *; Rating: *; Note: *; Tolerance: *; Value: *
footprint 0402 (Surface Mount; Body 1 x 0.5 mm (LxW typ))
footprint 0402-W (Surface Mount - Wide; Body 1.0 x 0.5 mm (LxW typ))
footprint 0603 (Surface Mount; Body 1.6 x 0.8 mm (LxW typ))
footprint 0603-W (Surface Mount - Wide; Body 1.6 x 0.8 mm (LxW typ))
footprint 0805 (Surface Mount; Body 2.0 x 1.25 mm (LxW typ))
footprint 0805-W (Surface Mount - Wide; Body 2.0 x 1.25 mm (LxW typ))
footprint 1206 (Surface Mount; Body 3.2 x 1.6 mm (LxW typ))
footprint 1206-W (Surface Mount - Wide; Body 3.2 x 1.6 mm (LxW typ))
footprint 1210 (Surface Mount; Body 3.2 x 2.5 mm (LxW typ))
footprint 1210-W (Chip Capacitor; Body 3.2 x 2.5 mm (LxW typ))
pins: 1, 2

## S1000C30-N4T
designator U*
Ultra-small package High precision protection(SC82-AB)
footprint SC82-AB
pins: 1 OUT, 2 VDD, 3 NC, 4 VSS

## S-882Zxx
designator U*
ULTRA-LOW VOLTAGE OPERATION CHARGE PUMP IC  FOR STEP-UP DC-DC CONVERTER STARTUP; Manufacturer: Seiko Instruments; Digi-Key Part Number: S-882Z20-M5T1G-ND; Rating: *; Note: *; Manufacturer Part Number: S-882Zxx; Value: *
footprint SOT23-5
pins: 1 OUT, 2 VSS, 3 VM, 4 VIN, 5 CPOUT

## SI1016X
designator Q?
Mosfet Array 20V 485mA, 370mA 250mW Surface Mount SC-89 (SOT-563F); Manufacturer: Vishay Siliconix; Manufacturer Part Number: SI1016X-T1-GE3; Note: Obsolete, use DMG1016V-7; Rating: 250mW, -55~150C; Digi-Key Part Number: SI1016X-T1-GE3; Value: *
footprint SC-89-6 Vishay
pins: 1 S1, 2 G1, 3 D2, 4 S2, 5 G2, 6 D1
text: N; P

## SMA - Edge
designator J?, comment SMA
SMA - Board Edge Connector; Note: *; Digi-Key Part Number: *; Manufacturer Part Number: *; Manufacturer: *
footprint SMA - Edge - Wide (SMA - Board Edge Connector, Wide Body = .375in, no gnd pad)
footprint SMA - Edge - Narrow (SMA - Board Edge Connector, Narrow body = 0.25in)
pins: 1, 1, 2

## SMA - Hole - 2 Pin
designator J?, comment SMA
Two pin SMA connector wisp; Note: *; Manufacturer: *; Digi-Key Part Number: *; Manufacturer Part Number: *; Rating: *
footprint SMA - Hole - 2 Pin (SMA port for wisp)
pins: 1 P1 "Output", 2 P2 "Output"

## SMA - Hole - 3 Pin
designator J?, comment SMA
Three pin SMA connector wisp; Note: Not a part do not populate
footprint SMA - Hole - 3 Pin (SMA Through Hole Connector 3 pins)
pins: 1 P1 "Output", 1 P1 "Output", 2 P2 "Output"

## SMA - Hole - 5 Pin
designator J?, comment SMA  (value not drawn)
SMA - Through Hole Connector; Manufacturer Part Number: *; Manufacturer: *; Digi-Key Part Number: *; Note: *
footprint SMA - Hole - 5 Pin (SMA Through Hole Connector)
pins: 1, 2

## SMS7630-005LF
designator D?  value 1V
RF diode schottky / SOT-23 Series Pair / Ls=1.5nH; Manufacturer: Skyworks Solutions Inc.; Rating: 75mW, -65~150C; Manufacturer Part Number: SMS7630-005LF; Digi-Key Part Number: 863-1699-1-ND; Tolerance: *; Note: *
footprint SOT23 - N (SOT23, 3-Leads, Body 2.9x1.3mm, Pitch 0.95mm, Lead Span 2.3mm - Reverse Pinning, IPC Medium Density)
pins: 1 A, 2 K, 3 C

## SV - Set 2
designator U*
Ultra small package High precision voltage protection(SOT-23-5); Note: This foot print (or set of footprint) can be used for multiple supervisor form different manufactures. In some case a capacitor or resistors in necessary. Not for production use as it.
footprint SV - Set 2 (S-1000 (SOT-23-5, SC-82);  S1009 (SOT-23-5);  XC61C (SC-82, SOT-23);  NCP300 (SOT-23-5))
pins: 1 OUT, 2 Vin, 3 GND, 4 NC, 5 Vin, 6 CD, 7 GND

## Test Point
designator T?, comment TP  (value not drawn)
Test Point, large or small foot prints; Manufacturer Part Number: Example: 5000, 5013; Manufacturer: Keystone Electronics; Digi-key: Example: 5000K-ND, 5012K-ND; Note: *; Rating: *; Value: *
footprint Test Point - Small (Test Point, 40mil hole, example DK: 5000K-ND)
footprint Test Point - Large (Test Point, 63mil hole, example DK: 5012K-ND)
pins: 0

## Test Point SMT
designator T?, comment TP  (value not drawn)
Test Point, Flat Pad; Manufacturer Part Number: Example: 5000, 5013; Manufacturer: Keystone Electronics; Digi-key: Example: 5000K-ND, 5012K-ND; Note: *; Rating: *; Value: *
footprint SMT_TESTPOINT_2MM
pins: 1

## Test Point Via
designator T?, comment TP  (value not drawn)  (no BOM)
Test Point, via no BOM
footprint Test Point - Via (Test Point, 20 mil hole)
pins: 0

## TPS7A0218PDBVR
designator U?
Linear Voltage Regulator IC Positive Fixed 1 Output 200mA SOT-23-5; Manufacturer: Texas Instruments; Rating: 6V in, -40~125C; Value: 1.8V; Manufacturer Part Number: TPS7A0218PDBVR; Note: *; Digi-Key Part Number: 296-TPS7A0218PDBVRCT-ND; Tolerance: *
footprint SOT23-5
pins: 1 IN, 2 GND, 3 EN, 4 NC, 5 OUT

## Var-Cap/603
designator CV?, comment Var Cap  (value not drawn)
Var-Cap 603 Compatible, DK: 490-2009 & SG2026CT; DNS: Do Not Stuff Part; Part Number: *; Digi-Key PN: 490-2009 & SG2026CT
footprint Var-Cap_0603_Large (Var-Cap 603 Compatible, DK: 490-2009 & SG2026CT)
footprint Var-Cap_0603_Small (Var-Cap 0603 Compatible High-Q, DK#490-2011-1-ND)
pins: 1 "Output", 2 "Output"

## XTAL_2pin
designator Y?, comment XTAL 2 pin  (value not drawn)
2-pin XTAL; Digi-Key Part Number: *; Manufacturer: *; Manufacturer Part Number: *; Rating: *; Note: *; Value: *
footprint XTAL [3.20mm x 1.50mm] (FC-135   crystal - epson eletronics)
pins: 1 (power) "Output", 2 (power) "Output"

## XTAL_4pin
designator Y?, comment XTAL 4 pin  (value not drawn)
4-Pin XTAL; Digi-Key Part Number: *; Manufacturer Part Number: *; Manufacturer: *; Note: *; Rating: *; Value: *
footprint XTAL 2.5mm x 2.0mm (CRYSTAL, 2.5mm x 2.0mm,  4Pin)
pins: 1 XIN, 2 Gnd, 3 XOUT, 4 Gnd